# Altium schematic symbol library self_custom_etb_driver_1.SCHLIB: 43 symbols
Pins are listed as number, name and electrical type; pins without a type are passive.

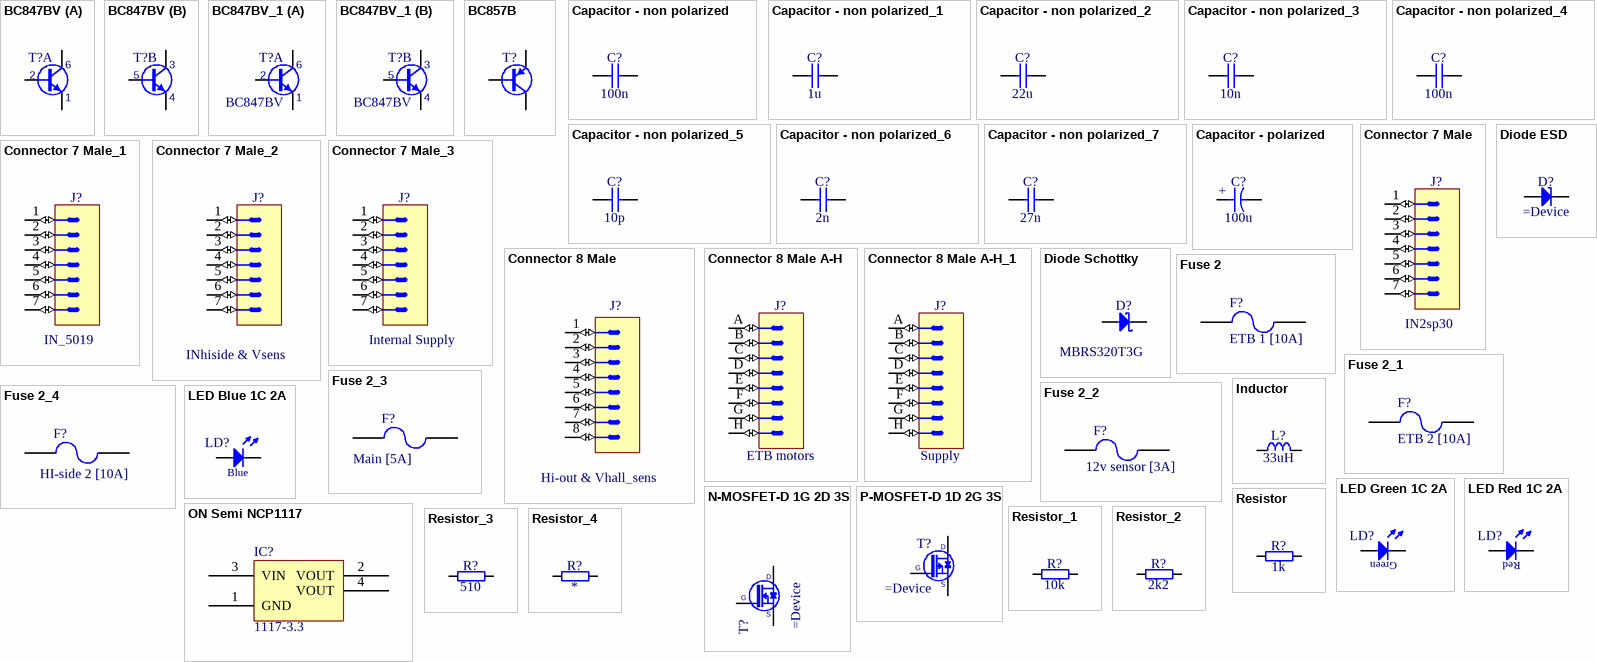
[diagram p0: symbols BC847BV to Resistor_4]

## BC847BV
designator T?  (value not drawn)
45V, 100mA NPN General Purpose Double Transistor; Part Description: 45V 100mA NPN General Purpose Double Transistor; Manufacturer: NXP SEMICONDUCTORS; Table: Transistors; Part Number: BC847BV; Component Kind: Standard; Component Type: Standard; Device: BC847BV; Footprint: SOTFL50P160X60-6N; PackageDescription: SOTFL (SOT666), 0.50mm, Pitch; 6 Pin, 1.20mm W X 1.60mm L X 0.60mm H Body, IPC Medium Density; Manufacturer Part Number: BC847BV; Pin Count: 6; Case: SOT666; Mounted: Yes; Socket: No; SMD: Yes; ComponentHeight: 0.6mm; HelpURL: \\cern.ch\dfs\Applications\Altium\Datasheets\BC847BV.pdf; Author: CERN DEM JLC; CreateDate: 01.12.2011; LatestRevisionDate: 01.12.2011
footprint SOT65P210X100-6N (SOT363, SC70-6, SOT, 0.65mm Pitch, 6 pin, 1.25mm W X 2.00mm L X 1.00mm H, IPC Medium Density)
part A pins: 1 E, 2 B, 6 C
part B pins: 3 C, 4 E, 5 B

## BC847BV_1
designator T?, comment BC847BV
45V, 100mA NPN General Purpose Double Transistor; Device: BC847BV
footprint SOT65P210X100-6N (SOT363, SC70-6, SOT, 0.65mm Pitch, 6 pin, 1.25mm W X 2.00mm L X 1.00mm H, IPC Medium Density)
part A pins: 1 E, 2 B, 6 C
part B pins: 3 C, 4 E, 5 B

## BC857B
designator T?  (value not drawn)
PNP Transistor; Part Description: 45V 100mA PNP general-purpose transistors; Manufacturer: NXP SEMICONDUCTORS; Table: Transistors; Part Number: BC857B; Component Kind: Standard; Component Type: Standard; Device: BC857B; Footprint: SOT95P230X110-3N; PackageDescription: SOT23, 3 pin, Pitch 0.95mm - 1.3mm W X 2.9mm L X 1.1mm H, IPC Medium Density; Manufacturer Part Number: BC857B; Pin Count: 3; Case: SOT23-3; Mounted: Yes; Socket: No; SMD: Yes; ComponentHeight: 1.1mm; HelpURL: \\cern.ch\dfs\Applications\Altium\Datasheets\BC857B.pdf; Author: CERN DEM JLC; CreateDate: 14.06.2011; LatestRevisionDate: 14.06.2011
footprint SOT95P230X110-3N (SOT23, 3 pin, Pitch 0.95mm - 1.3mm W X 2.9mm L X 1.1mm H, IPC Medium Density)
pins: 1 B, 2 E, 3 C

## Capacitor - non polarized
designator C?, comment 100n
Non-polarised capacitor; Value: 100n
footprint CAPC1608X87N (Chip Capacitor, Body 1.6x0.8mm IPC Medium Density)
pins: 1, 2

## Capacitor - non polarized_1
designator C?, comment 1u
Non-polarised capacitor; Value: 1u
footprint CAPC2012X88N (Chip Capacitor, Body 2.0x1.25mm, IPC Medium Density)
pins: 1, 2

## Capacitor - non polarized_2
designator C?, comment 22u
Non-polarised capacitor; Value: 22u
footprint CAPC3216X140N (Chip Capacitor, Body 3.2x1.6mm, IPC Medium Density)
pins: 1, 2

## Capacitor - non polarized_3
designator C?, comment 10n
Non-polarised capacitor; Value: 10n
footprint CAPC1608X87N (Chip Capacitor, Body 1.6x0.8mm IPC Medium Density)
pins: 1, 2

## Capacitor - non polarized_4
designator C?, comment 100n
Non-polarised capacitor; Value: 100n
footprint CAPC1608X87N (Chip Capacitor, Body 1.6x0.8mm IPC Medium Density)
pins: 1, 2

## Capacitor - non polarized_5
designator C?, comment 10p
Non-polarised capacitor; Value: 10p
footprint CAPC1608X85N (Chip Capacitor, Body 1.6x0.8mm IPC Medium Density)
footprint CAPC1608X87N (Chip Capacitor, Body 1.6x0.8mm IPC Medium Density)
pins: 1, 2

## Capacitor - non polarized_6
designator C?, comment 2n
Non-polarised capacitor; Value: 2n
footprint CAPC1608X85N (Chip Capacitor, Body 1.6x0.8mm IPC Medium Density)
footprint CAPC1608X87N (Chip Capacitor, Body 1.6x0.8mm IPC Medium Density)
pins: 1, 2

## Capacitor - non polarized_7
designator C?, comment 27n
Non-polarised capacitor; Value: 27n
footprint CAPC1608X85N (Chip Capacitor, Body 1.6x0.8mm IPC Medium Density)
footprint CAPC1608X87N (Chip Capacitor, Body 1.6x0.8mm IPC Medium Density)
pins: 1, 2

## Capacitor - polarized
designator C?, comment 100u
Polarised capacitor; Value: 100u
footprint CAP AL TH D10 L5 H12.5 (10MM Diameter, 5MM Lead Spacing Aluminium Capacitor)
pins: 1, 2
text: +

## Connector 7 Male
designator J?, comment IN2sp30
Connector 7 Male
footprint MOLEX_22-04-1071 (2.5mm (.100") Pitch KK® Header, Single Row, Vertical, 7 Circuits)
pins: 1 (io), 2 (io), 3 (io), 4 (io), 5 (io), 6 (io), 7 (io)
1 alternate drawing of the same symbol

## Connector 7 Male_1
designator J?, comment IN_5019
Connector 7 Male
footprint MOLEX_22-04-1071 (2.5mm (.100") Pitch KK® Header, Single Row, Vertical, 7 Circuits)
pins: 1 (io), 2 (io), 3 (io), 4 (io), 5 (io), 6 (io), 7 (io)
1 alternate drawing of the same symbol

## Connector 7 Male_2
designator J?, comment INhiside & Vsens
Connector 7 Male
footprint MOLEX_22-04-1071 (2.5mm (.100") Pitch KK® Header, Single Row, Vertical, 7 Circuits)
pins: 1 (io), 2 (io), 3 (io), 4 (io), 5 (io), 6 (io), 7 (io)
1 alternate drawing of the same symbol

## Connector 7 Male_3
designator J?, comment Internal Supply
Connector 7 Male
footprint MOLEX_22-04-1071 (2.5mm (.100") Pitch KK® Header, Single Row, Vertical, 7 Circuits)
pins: 1 (io), 2 (io), 3 (io), 4 (io), 5 (io), 6 (io), 7 (io)
1 alternate drawing of the same symbol

## Connector 8 Male
designator J?, comment Hi-out & Vhall_sens
Connector 8 Male
footprint MOLEX_22-27-2081 (2.54mm (.100") Pitch KK® Header, Single Row, Vertical, 8 Circuits)
pins: 1 (io), 2 (io), 3 (io), 4 (io), 5 (io), 6 (io), 7 (io), 8 (io)
1 alternate drawing of the same symbol

## Connector 8 Male A-H
designator J?, comment ETB motors
Connector 8 Male A To H Contacts Numbering
footprint MOLEX_22-27-2081 (2.54mm (.100") Pitch KK® Header, Single Row, Vertical, 8 Circuits)
pins: A (io), B (io), C (io), D (io), E (io), F (io), G (io), H (io)

## Connector 8 Male A-H_1
designator J?, comment Supply
Connector 8 Male A To H Contacts Numbering
footprint MOLEX_22-27-2081 (2.54mm (.100") Pitch KK® Header, Single Row, Vertical, 8 Circuits)
pins: A (io), B (io), C (io), D (io), E (io), F (io), G (io), H (io)

## Diode ESD
designator D?
ESD protection diode
footprint DIOM7659X265N (DO-214-AB/SMC Molded Diode, Body 7.95x5.9mm, IPC Medium Density)
pins: 1 C, 2 A

## Diode Schottky
designator D?, comment MBRS320T3G
Schottky Diode; Device: MBRS320T3G
footprint DIOM7659X265N (DO-214-AB/SMC Molded Diode, Body 7.95x5.9mm, IPC Medium Density)
pins: 1 C, 2 A

## Fuse 2
designator F?, comment ETB 1 [10A]
Fuse; Published: 8-Jun-2000; LatestRevisionDate: 17-Jul-2002; LatestRevisionNote: Re-released for DXP Platform.; PackageReference: PIN-W2/E2.8; Publisher: Altium Limited; PackageDescription: Thru-Hole; 2 Leads
footprint PIN-W2/E2.8 (Thru-Hole; 2 Leads)
simulation model FUSE (Spice Subcircuit)
pins: 1, 2

## Fuse 2_1
designator F?, comment ETB 2 [10A]
Fuse; Published: 8-Jun-2000; LatestRevisionDate: 17-Jul-2002; LatestRevisionNote: Re-released for DXP Platform.; PackageReference: PIN-W2/E2.8; Publisher: Altium Limited; PackageDescription: Thru-Hole; 2 Leads
footprint PIN-W2/E2.8 (Thru-Hole; 2 Leads)
simulation model FUSE (Spice Subcircuit)
pins: 1, 2

## Fuse 2_2
designator F?, comment 12v sensor [3A]
Fuse; Published: 8-Jun-2000; LatestRevisionDate: 17-Jul-2002; LatestRevisionNote: Re-released for DXP Platform.; PackageReference: PIN-W2/E2.8; Publisher: Altium Limited; PackageDescription: Thru-Hole; 2 Leads
footprint PIN-W2/E2.8 (Thru-Hole; 2 Leads)
simulation model FUSE (Spice Subcircuit)
pins: 1, 2

## Fuse 2_3
designator F?, comment Main [5A]
Fuse; Published: 8-Jun-2000; LatestRevisionDate: 17-Jul-2002; LatestRevisionNote: Re-released for DXP Platform.; PackageReference: PIN-W2/E2.8; Publisher: Altium Limited; PackageDescription: Thru-Hole; 2 Leads
footprint PIN-W2/E2.8 (Thru-Hole; 2 Leads)
simulation model FUSE (Spice Subcircuit)
pins: 1, 2

## Fuse 2_4
designator F?, comment HI-side 2 [10A]
Fuse; Published: 8-Jun-2000; LatestRevisionDate: 17-Jul-2002; LatestRevisionNote: Re-released for DXP Platform.; PackageReference: PIN-W2/E2.8; Publisher: Altium Limited; PackageDescription: Thru-Hole; 2 Leads
footprint PIN-W2/E2.8 (Thru-Hole; 2 Leads)
simulation model FUSE (Spice Subcircuit)
pins: 1, 2

## Inductor
designator L?, comment 33uH
Inductor; Device: HPI0630-330; Value: 33uH
footprint IND_WURTH_WE-PD_7332(METAL) (Power Choke, WE-PD Serie, Body 7.3x7.3mm (Metal Base))
pins: 1, 2

## LED Blue 1C 2A
designator LD?
LED Blue 1C 2A
footprint LED_5MM_YELLOW_1C-2A (LED, Yellow, Body Dia. 5.08mm, Pin spacing 2.54mm)
pins: 1 C, 2 A
text: Blue

## LED Green 1C 2A
designator LD?
LED Green 1C 2A
footprint LED_5MM_GREEN_1C-2A (LED, Green, Body Dia. 5.08mm, Pin spacing 2.54mm)
pins: 1 C, 2 A
text: Green

## LED Red 1C 2A
designator LD?
LED Red 1C 2A
footprint LED_5MM_RED_1C-2A (LED, Red, Body Dia. 5.08mm, Pin spacing 2.54mm)
pins: 1 C, 2 A
text: Red

## N-MOSFET-D 1G 2D 3S
designator T?
N-CHANNEL MOSFET WITH DIODE
footprint TO254P1394X457-4N-R760X1022 (D2PAK TO-263, TO, 2.54mm pitch; 3 pin, 13.945mm L X 8.89mm W X 4.57mm H body, IPC Medium Density)
footprint TO228P991X239-3N-R546X521 (TO-252AA DPAK TO, 2.28mm pitch; 2 pin,9.905mm L X 6.095mm W X 2.39mm H body, IPC Medium Density)
pins: 1 G, 2 D, 3 S

## ON Semi NCP1117
designator IC?, comment 1117-3.3
1.0A Low-Dropout Positive Fixed and Adjustable Voltage Regulators
footprint SOT230P700X180-4N (SOT223, 2.30mm pitch; 3 pin, 3.70mm W X 6.70mm L, IPC Medium Density)
pins: 1 GND, 2 VOUT, 3 VIN, 4 VOUT

## P-MOSFET-D 1D 2G 3S
designator T?
P-CHANNEL MOSFET WITH DIODE
footprint TO228P991X238-3N-R648X546 (TO-252AA DPAK TO, 2.28mm pitch; 2 pin,9.91mm L X 6.095mm W X 2.38mm H body, IPC Medium Density)
footprint TO228P991X239-3N-R546X521 (TO-252AA DPAK TO, 2.28mm pitch; 2 pin,9.905mm L X 6.095mm W X 2.39mm H body, IPC Medium Density)
pins: 1 D, 2 G, 3 S

## Resistor
designator R?, comment 1k
Resistor; Value: 1k
footprint RESC1608X55N (Chip Resistor, EIA 0603, Metric 1608, Body 1.6x0.8mm, IPC Medium Density)
pins: 1, 2

## Resistor_1
designator R?, comment 10k
Resistor; Value: 10k
footprint RESC1608X55N (Chip Resistor, EIA 0603, Metric 1608, Body 1.6x0.8mm, IPC Medium Density)
pins: 1, 2

## Resistor_2
designator R?, comment 2k2
Resistor; Value: 2k2
footprint RESC1608X55N (Chip Resistor, EIA 0603, Metric 1608, Body 1.6x0.8mm, IPC Medium Density)
pins: 1, 2

## Resistor_3
designator R?, comment 510
Resistor; Value: 510
footprint RESC1608X55N (Chip Resistor, EIA 0603, Metric 1608, Body 1.6x0.8mm, IPC Medium Density)
pins: 1, 2

## Resistor_4
designator R?
Resistor; Value: *
footprint RESC1608X55N (Chip Resistor, EIA 0603, Metric 1608, Body 1.6x0.8mm, IPC Medium Density)
footprint RESC1608X55N (Chip Resistor, EIA 0603, Metric 1608, Body 1.6x0.8mm, IPC Medium Density)
pins: 1, 2

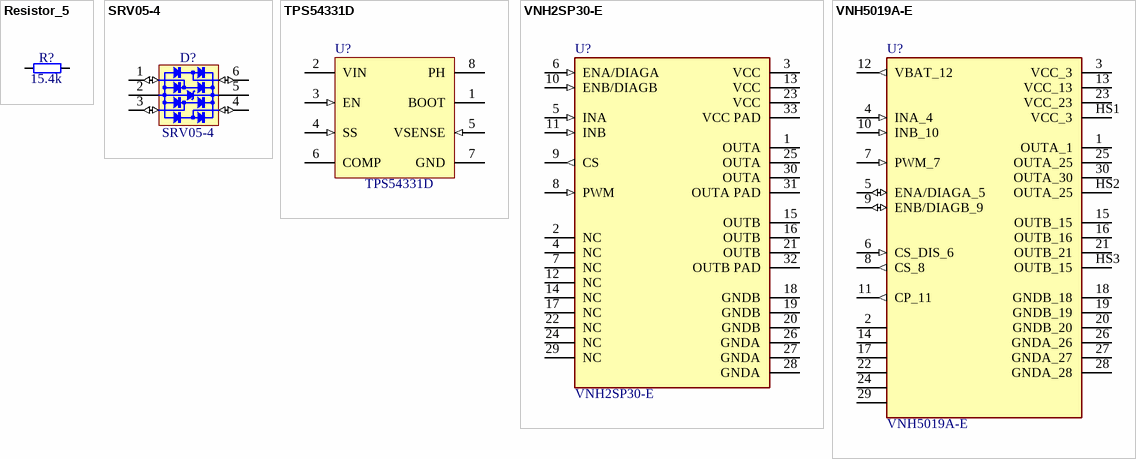
[diagram p1: symbols Resistor_5 to VNH5019A-E]

## Resistor_5
designator R?, comment 15.4k
Resistor; Value: 15.4k
footprint RESC1608X55N (Chip Resistor, EIA 0603, Metric 1608, Body 1.6x0.8mm, IPC Medium Density)
footprint RESC1608X55N (Chip Resistor, EIA 0603, Metric 1608, Body 1.6x0.8mm, IPC Medium Density)
pins: 1, 2

## SRV05-4
designator D?
RailClamps Low Capacitance TVS Diode Array; Device: SRV05-4
footprint SOT65P210X100-6N (SOT363, SC70-6, SOT, 0.65mm Pitch, 6 pin, 1.25mm W X 2.00mm L X 1.00mm H, IPC Medium Density)
pins: 1 I/O1 (io), 2 GND (power), 3 I/O2 (io), 4 I/O3 (io), 5 VBUS (power), 6 I/O4 (io)

## TPS54331D
designator U?
Buck Step Down Regulator with 3.5 to 28 V Input and 0.8 to 25 V Output, -40 to 150 degC, 8-Pin SOIC (D), Green (RoHS & no Sb/Br); Manufacturer: Texas Instruments; Vout(Min)(V): 0.8; Vin(Min)(V): 3.5; Duty Cycle(Max)(%): 90; SubFamily: Step-Down Regulator; Iq(Typ)(mA): 0.11; Vin(Max)(V): 28; Rating: Catalog; Vout(Max)(V): 25; Iout(Max)(A): 3; Regulated Outputs(#): 1; PackageReference: D8; Switch Current Limit(Typ)(A): 3.5; Topology: Buck; Eco-Plan: Green (RoHS & no Sb/Br); PartNumber: TPS54331D; ComponentLink1Description: Datasheet; ComponentLink2Description: Package Specification; DatasheetVersion: SLVS839D; ComponentLink3URL: Samples URL:http://www.ti.com/product/tps54331#samples; ComponentLink1URL: http://www.ti.com/general/docs/lit/getliterature.tsp?genericPartNumber=TPS54331&fileType=pdf; Code_JEDEC: MS-012AA; ComponentLink2URL: http://www.ti.com/litv/pdf/msoi002j; ComponentLink3Description: URL Link1; PackageVersion: revM, Jun-2011; Mounting Technology: Surface Mount; PackageDescription: 8-Pin Plastic Small Outline Integrated Circuit, 4.9 x 3.9 mm, Pitch 1.27 mm Pitch
footprint D8_N
footprint D8_L
footprint D8_M
footprint SOIC127P600X175-8N (SOIC 8, Pitch 1.27mm - Body 4x5mm, IPC Medium Density)
pins: 1 BOOT "A 0.1 uF bootstrap capacitor is required between BOOT and PH. If the voltage on this capacitor falls below the minimum requirement, the high-side MOSFET is forced to switch off until the capacitor is refreshed", 2 VIN (power) "Input supply voltage, 3.5 V to 28 V.", 3 EN (in) "Enable pin. Pull below 1.25V to disable. Float to enable. Programming the input undervoltage lockout with two resistors is recommended.", 4 SS (in) "Slow start pin. An external capacitor connected to this pin sets the output rise time.", 5 VSENSE (in) "Inverting node of the gm error amplifier.", 6 COMP "Error amplifier output, and input to the PWM comparator. Connect frequency compensation components to this pin.", 7 GND (power) "Ground", 8 PH (power) "The source of the internal high-side power MOSFET"

## VNH2SP30-E
designator U?
IC MOTOR DRIVER PAR 30MULTIPWRSO; Manufacturer: STMicroelectronics; Voltage: 16V; Mfg Package Ident: MultiPowerSO-30; helpURL: https://upverter.com/upn/revision/311e1642ff6559a6/; ComponentLink2Description: Datasheet; Temperature: -40°C to +150°C; Package: MultiPowerSO-30; Supplier 2: Mouser; Supplier 1: Digi-Key; ComponentLink1URL: https://upverter.com/upn/revision/311e1642ff6559a6/; Supplier Part Number 2: 511-VNH2SP30-E; Supplier Part Number 1: 497-4500-5-ND; ComponentLink1Description: Upverter; ComponentLink2URL: http://www.st.com/content/ccc/resource/technical/document/datasheet/group2/66/b8/f5/2c/9a/66/41/c7/CD00043711/files/CD00043711.pdf/jcr:content/translations/en.CD00043711.pdf; RoHS: TRUE; Mouser Part Number: 511-VNH2SP30-E; Temperature Range High: +150°C; Digikey Description: IC MOTOR DRIVER PAR 30MULTIPWRSO; Digikey Part Number: 497-4500-5-ND; Lead Free: yes; Temperature Range Low: -40°C
footprint STMicroelectronics_MultiPowerSO-30_0
pins: 1 OUTA (power), 2 NC (hiz), 3 VCC (power), 4 NC (hiz), 5 INA (in), 6 ENA/DIAGA (in), 7 NC (hiz), 8 PWM (in), 9 CS (out), 10 ENB/DIAGB (in), 11 INB (in), 12 NC (hiz), 13 VCC (power), 14 NC (hiz), 15 OUTB (power), 16 OUTB (power), 17 NC (hiz), 18 GNDB (power), 19 GNDB (power), 20 GNDB (power), 21 OUTB (power), 22 NC (hiz), 23 VCC (power), 24 NC (hiz), 25 OUTA (power), 26 GNDA (power), 27 GNDA (power), 28 GNDA (power), 29 NC (hiz), 30 OUTA (power), 31 OUTA PAD (power), 32 OUTB PAD (power), 33 VCC PAD (power)

## VNH5019A-E
designator U?
Motor Driver Power MOSFET Parallel, PWM MultiPowerSO-30; MF: STMicroelectronics; Value: *; Availability: Unavailable; MP: VNH5019A-E; Price: None; Package: PowerSOP-30 STMicroelectronics; SnapEDA_Link: https://www.snapeda.com/parts/VNH5019A-E/STMicroelectronics/view-part/231156/?ref=snap
footprint STMicroelectronics_MultiPowerSO-30_0
pins: 1 OUTA_1 (power), 2 N.C._2 (hiz), 3 VCC_3 (power), 4 INA_4 (in), 5 ENA/DIAGA_5 (io), 6 CS_DIS_6 (in), 7 PWM_7 (in), 8 CS_8 (out), 9 ENB/DIAGB_9 (io), 10 INB_10 (in), 11 CP_11 (out), 12 VBAT_12 (out), 13 VCC_13 (power), 14 NC_14 (hiz), 15 OUTB_15 (power), 16 OUTB_16 (power), 17 NC_17 (hiz), 18 GNDB_18 (power), 19 GNDB_19 (power), 20 GNDB_20 (power), 21 OUTB_21 (power), 22 NC_22 (hiz), 23 VCC_23 (power), 24 NC_24 (hiz), 25 OUTA_25 (power), 26 GNDA_26 (power), 27 GNDA_27 (power), 28 GNDA_28 (power), 29 N.C._29 (hiz), 30 OUTA_30 (power), HS1 VCC_3 (power), HS2 OUTA_25 (power), HS3 OUTB_15 (power)